# EAGLE library part DE9_CONNECTOR (library main_library)
D-Subminiatur Connector Source: Electronioc Interconnects European Edition 1998
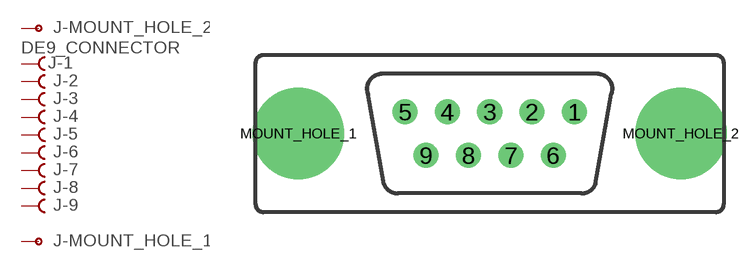
[diagram p1: symbol with the pads of DE9-THRUHOLE-WITHMOUTNHOLES; footprint DE9-THRUHOLE-WITHMOUTNHOLES]

Designator prefix J; gates -1=FV -2=F -3=F -4=F -5=F -6=F -7=F -8=F -9=F -MOUNT_HOLE_1=MOUNT_HOLE -MOUNT_HOLE_2=MOUNT_HOLE

## DE9_CONNECTORH2R09ST (INCLUDE_IN_BOM: yes; OC_FARNELL: unknown; OC_NEWARK: unknown)  [DE9-THRUHOLE-WITHMOUTNHOLES]
1  -1:F  pas
2  -2:F  pas
3  -3:F  pas
4  -4:F  pas
5  -5:F  pas
6  -6:F  pas
7  -7:F  pas
8  -8:F  pas
9  -9:F  pas
MOUNT_HOLE_1  -MOUNT_HOLE_1:MOUNT_HOLE
MOUNT_HOLE_2  -MOUNT_HOLE_2:MOUNT_HOLE

## Footprint DE9-THRUHOLE-WITHMOUTNHOLES (pad centres in mm)
THOMAS&BETTS H2R09ST29x
drill 1.092: 1 5.537,1.422; 2 2.769,1.422; 3 0,1.422; 4 -2.769,1.422; 5 -5.537,1.422; 6 4.153,-1.422; 7 1.384,-1.422; 8 -1.384,-1.422; 9 -4.153,-1.422
drill 3.048 pad 5.969: MOUNT_HOLE_1 -12.497,0; MOUNT_HOLE_2 12.497,0